# Altium integrated library TI Data Converters Digital to Analog Converter.IntLib: 1533 symbols (part 19 of 99)
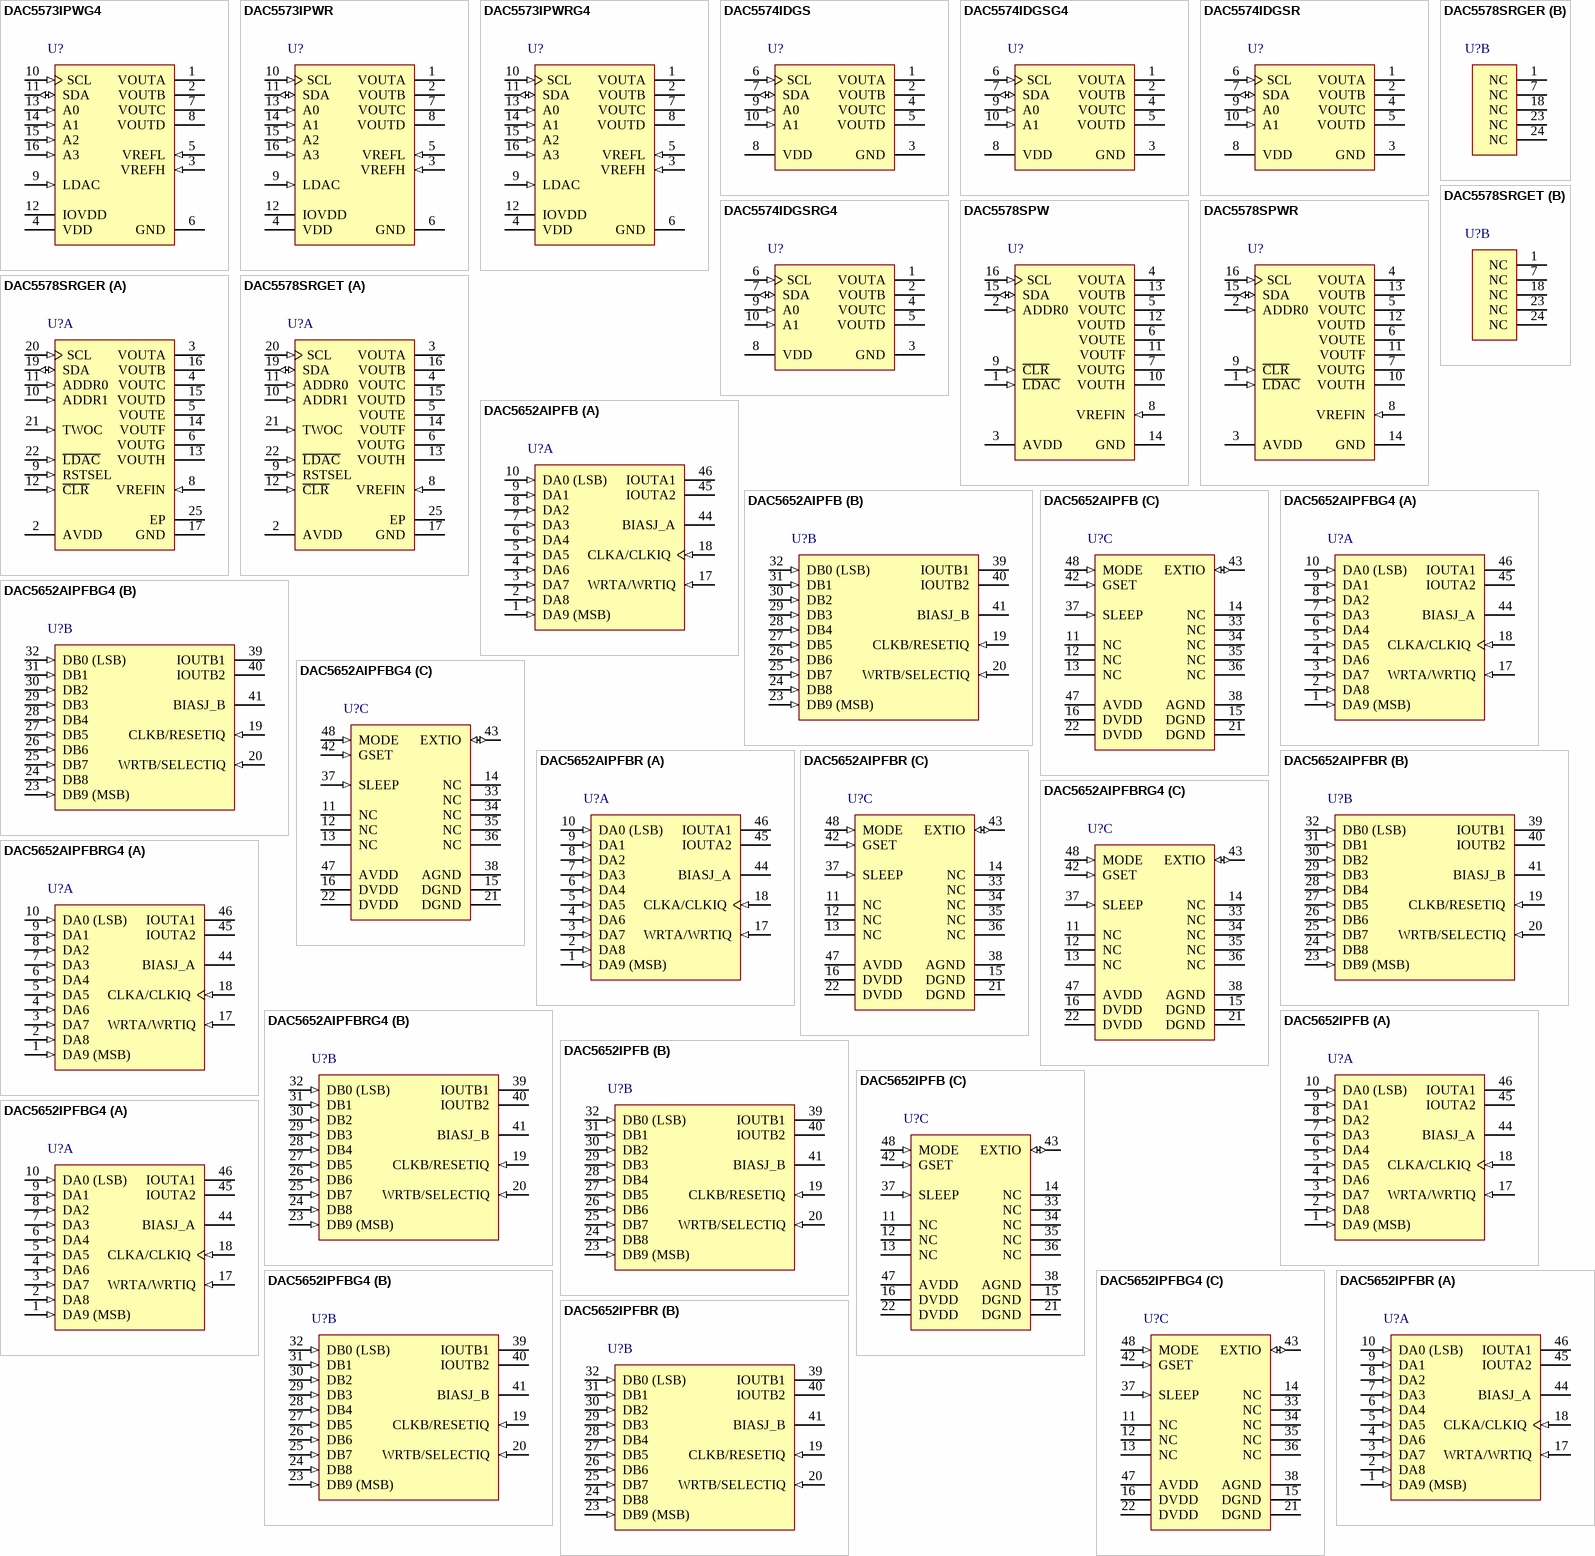
[diagram p91: symbols DAC5573IPWG4 to DAC5652IPFBR]

## DAC5578SPWR
designator U?
8-Bit, Octal Channel, Ultra-Low Glitch, Voltage Output, 2-Wire Interface DAC, -40 to 125 degC, 16-pin SOP (PW16), Green (RoHS & no Sb/Br); Manufacturer: Texas Instruments; PartNumber: DAC5578SPWR; DAC Channels: 8; DNL(Max)(+/-LSB): 0.25; Interface: Serial I2C; Power Consumption(Typ)(mW): 3.67; Settling Time(us): 7; SubFamily: Precision DAC (=<10MSPS); DatasheetVersion: SBAS496A; PackageVersion: 4040064-4/G, 02/2011; PackageReference: PW16; PackageDescription: 16-Pin Plastic Small Outline, Body 5 x 4.4 mm, Pitch 0.65 mm; Supplier 1: Digi-Key; Supplier Part Number 1: DAC5578SPWR-ND; Supplier 2: Farnell; Supplier Part Number 2: 1854518; Supplier 3: Newark; Supplier Part Number 3: 01T0028; Supplier 4: Mouser; Supplier Part Number 4: 595-DAC5578SPWR; Eco-Plan: Green (RoHS & no Sb/Br); INL(Max)(+/-LSB): 0.25; Resolution(Bits): 8; Mounting Technology: Surface Mount; Code_JEDEC: MO-153; ComponentLink1Description: Manufacturer URL; ComponentLink1URL: http://www.ti.com/; ComponentLink2Description: Datasheet; ComponentLink2URL: http://www.ti.com/general/docs/lit/getliterature.tsp?genericPartNumber=DAC5578&fileType=pdf; ComponentLink3Description: Package Specification; ComponentLink3URL: http://www.ti.com/lit/ml/mpds361/mpds361.pdf
footprint TI-PW16_N (SOP, 16-Leads, Body 5x4.4mm, Pitch 0.65mm, IPC Medium Density)
footprint TI-PW16_L (SOP, 16-Leads, Body 5x4.4mm, Pitch 0.65mm, IPC High Density)
footprint TI-PW16_M (SOP, 16-Leads, Body 5x4.4mm, Pitch 0.65mm, IPC Low Density)
pins: 1 ~{LDAC} (in) "Load DACs", 2 ADDR0 (in) "3-state address input", 3 AVDD (power) "Power-supply input, 2.7V to 5.5V", 4 VOUTA (hiz) "Analog output voltage from DAC A", 5 VOUTC (hiz) "Analog output voltage from DAC C", 6 VOUTE (hiz) "Analog output voltage from DAC E", 7 VOUTG (hiz) "Analog output voltage from DAC G", 8 VREFIN (in) "Positive reference input", 9 ~{CLR} (in) "Asynchronous clear input", 10 VOUTH (hiz) "Analog output voltage from DAC H", 11 VOUTF (hiz) "Analog output voltage from DAC F", 12 VOUTD (hiz) "Analog output voltage from DAC D", 13 VOUTB (hiz) "Analog output voltage from DAC B", 14 GND (power) "Ground reference point for all circuitry on the device", 15 SDA (io) "Serial data input. Data are clocked into or out of the input register. This pin is a bidirectional, open-drain data line that should be connected to the supply voltage with an external pull-up resistor.", 16 SCL (in) "Serial clock input. Data can be transferred at rates up to 3.4MHz. Schmitt-trigger logic input."

## DAC5578SRGER
designator U?
8-Bit, Octal Channel, Ultra-Low Glitch, Voltage Output, 2-Wire Interface DAC, -40 to 125 degC, 24-pin QFN (RGE24), Green (RoHS & no Sb/Br); Manufacturer: Texas Instruments; PartNumber: DAC5578SRGER; DAC Channels: 8; DNL(Max)(+/-LSB): 0.25; Interface: Serial I2C; Power Consumption(Typ)(mW): 3.67; Settling Time(us): 7; SubFamily: Precision DAC (=<10MSPS); DatasheetVersion: SBAS496A; PackageVersion: 4204104/G, 07/2011; PackageReference: RGE24-2700X2700TP; PackageDescription: 24-Pin Plastic Flat Pack, Body 4 x 4 mm, Pitch 0.5 mm; Supplier 1: Digi-Key; Supplier Part Number 1: DAC5578SRGER-ND; Supplier 2: Mouser; Supplier Part Number 2: 595-DAC5578SRGER; Eco-Plan: Green (RoHS & no Sb/Br); INL(Max)(+/-LSB): 0.25; Resolution(Bits): 8; Mounting Technology: Surface Mount; Code_JEDEC: MO-220; ComponentLink1Description: Manufacturer URL; ComponentLink1URL: http://www.ti.com/; ComponentLink2Description: Datasheet; ComponentLink2URL: http://www.ti.com/general/docs/lit/getliterature.tsp?genericPartNumber=DAC5578&fileType=pdf; ComponentLink3Description: Package Specification; ComponentLink3URL: http://www.ti.com/litv/pdf/mpqf124f
footprint TI-RGE24-2700X2700TP_V (QFN, 24-Leads, Body 4x4mm, Pitch 0.5mm, Thermal Pad 2.7x2.7mm)
part A pins: 2 AVDD (power) "Power-supply input, 2.7V to 5.5V", 3 VOUTA (hiz) "Analog output voltage from DAC A", 4 VOUTC (hiz) "Analog output voltage from DAC C", 5 VOUTE (hiz) "Analog output voltage from DAC E", 6 VOUTG (hiz) "Analog output voltage from DAC G", 8 VREFIN (in) "Positive reference input", 9 RSTSEL (in) "Reset select pin. RSTSEL high resets device to mid-scale; RSTSEL low resets device to zero-scale.", 10 ADDR1 (in) "3-state address input", 11 ADDR0 (in) "3-state address input", 12 ~{CLR} (in) "Asynchronous clear input", 13 VOUTH (hiz) "Analog output voltage from DAC H", 14 VOUTF (hiz) "Analog output voltage from DAC F", 15 VOUTD (hiz) "Analog output voltage from DAC D", 16 VOUTB (hiz) "Analog output voltage from DAC B", 17 GND (power) "Ground reference point for all circuitry on the device", 19 SDA (io) "Serial data input. Data are clocked into or out of the input register. This pin is a bidirectional, open-drain data line that should be connected to the supply voltage with an external pull-up resistor.", 20 SCL (in) "Serial clock input. Data can be transferred at rates up to 3.4MHz. Schmitt-trigger logic input.", 21 TWOC (in) "Twos complement select. If the TWOC pin is pulled high, the DAC registers use twos complement format; if TWOC is pulled low, the DAC registers use straight binary format.", 22 ~{LDAC} (in) "Load DACs", 25 EP (power) "It is recommended to connect the thermal pad to GND for better thermal dissipation."
part B pins: 1 NC "Not internally connected", 7 NC "Not internally connected", 18 NC "Not internally connected", 23 NC "Not internally connected", 24 NC "Not internally connected"

## DAC5578SRGET
designator U?
8-Bit, Octal Channel, Ultra-Low Glitch, Voltage Output, 2-Wire Interface DAC, -40 to 125 degC, 24-pin QFN (RGE24), Green (RoHS & no Sb/Br); Manufacturer: Texas Instruments; PartNumber: DAC5578SRGET; DAC Channels: 8; DNL(Max)(+/-LSB): 0.25; Interface: Serial I2C; Power Consumption(Typ)(mW): 3.67; Settling Time(us): 7; SubFamily: Precision DAC (=<10MSPS); DatasheetVersion: SBAS496A; PackageVersion: 4204104/G, 07/2011; PackageReference: RGE24-2700X2700TP; PackageDescription: 24-Pin Plastic Flat Pack, Body 4 x 4 mm, Pitch 0.5 mm; Supplier 1: Digi-Key; Supplier Part Number 1: 296-27737-2-ND; Supplier 2: Digi-Key; Supplier Part Number 2: 296-27737-1-ND; Supplier 3: Digi-Key; Supplier Part Number 3: 296-27737-6-ND; Supplier 4: Farnell; Supplier Part Number 4: 1862574; Supplier 5: Newark; Supplier Part Number 5: 91R2082; Supplier 6: Mouser; Supplier Part Number 6: 595-DAC5578SRGET; Eco-Plan: Green (RoHS & no Sb/Br); INL(Max)(+/-LSB): 0.25; Resolution(Bits): 8; Mounting Technology: Surface Mount; Code_JEDEC: MO-220; ComponentLink1Description: Manufacturer URL; ComponentLink1URL: http://www.ti.com/; ComponentLink2Description: Datasheet; ComponentLink2URL: http://www.ti.com/general/docs/lit/getliterature.tsp?genericPartNumber=DAC5578&fileType=pdf; ComponentLink3Description: Package Specification; ComponentLink3URL: http://www.ti.com/litv/pdf/mpqf124f
footprint TI-RGE24-2700X2700TP_V (QFN, 24-Leads, Body 4x4mm, Pitch 0.5mm, Thermal Pad 2.7x2.7mm)
part A pins: 2 AVDD (power) "Power-supply input, 2.7V to 5.5V", 3 VOUTA (hiz) "Analog output voltage from DAC A", 4 VOUTC (hiz) "Analog output voltage from DAC C", 5 VOUTE (hiz) "Analog output voltage from DAC E", 6 VOUTG (hiz) "Analog output voltage from DAC G", 8 VREFIN (in) "Positive reference input", 9 RSTSEL (in) "Reset select pin. RSTSEL high resets device to mid-scale; RSTSEL low resets device to zero-scale.", 10 ADDR1 (in) "3-state address input", 11 ADDR0 (in) "3-state address input", 12 ~{CLR} (in) "Asynchronous clear input", 13 VOUTH (hiz) "Analog output voltage from DAC H", 14 VOUTF (hiz) "Analog output voltage from DAC F", 15 VOUTD (hiz) "Analog output voltage from DAC D", 16 VOUTB (hiz) "Analog output voltage from DAC B", 17 GND (power) "Ground reference point for all circuitry on the device", 19 SDA (io) "Serial data input. Data are clocked into or out of the input register. This pin is a bidirectional, open-drain data line that should be connected to the supply voltage with an external pull-up resistor.", 20 SCL (in) "Serial clock input. Data can be transferred at rates up to 3.4MHz. Schmitt-trigger logic input.", 21 TWOC (in) "Twos complement select. If the TWOC pin is pulled high, the DAC registers use twos complement format; if TWOC is pulled low, the DAC registers use straight binary format.", 22 ~{LDAC} (in) "Load DACs", 25 EP (power) "It is recommended to connect the thermal pad to GND for better thermal dissipation."
part B pins: 1 NC "Not internally connected", 7 NC "Not internally connected", 18 NC "Not internally connected", 23 NC "Not internally connected", 24 NC "Not internally connected"

## DAC5652AIPFB
designator U?
Dual 10-Bit 275 MSPS Digital to Analog Converter, -40 to 85 degC, 48-pin QFP (PFB48), Green (RoHS & no Sb/Br); Manufacturer: Texas Instruments; PartNumber: DAC5652AIPFB; DAC Channels: 2; DNL(Max)(+/-LSB): 0.5; INL(Max)(+/-LSB): 1; Interface: Parallel CMOS; Power Consumption(Typ)(mW): 290; Resolution(Bits): 10; Settling Time(us): 0.02; SFDR(dB): 80; SNR(dB): 63; SubFamily: High Speed DAC (>10MSPS); DatasheetVersion: SLAS535D; PackageVersion: 4073176/B, 10/1996; PackageReference: PFB48; PackageDescription: 48-Pin Plastic Flat Pack, Body 7 x 7 mm, Pitch 0.5 mm; Supplier 1: Digi-Key; Supplier Part Number 1: 296-22614-ND; Supplier 2: Mouser; Supplier Part Number 2: 595-DAC5652AIPFB; Eco-Plan: Green (RoHS & no Sb/Br); Mounting Technology: Surface Mount; Code_JEDEC: MS-026; ComponentLink1Description: Manufacturer URL; ComponentLink1URL: http://www.ti.com/; ComponentLink2Description: Datasheet; ComponentLink2URL: http://www.ti.com/general/docs/lit/getliterature.tsp?genericPartNumber=DAC5652A&fileType=pdf; ComponentLink3Description: Package Specification; ComponentLink3URL: http://www.ti.com/lit/ml/mtqf019a/mtqf019a.pdf
footprint TI-PFB48_N (QFP, 48-Leads, Body 7x7mm, Pitch 0.5mm, IPC Medium Density)
footprint TI-PFB48_L (QFP, 48-Leads, Body 7x7mm, Pitch 0.5mm, IPC High Density)
footprint TI-PFB48_M (QFP, 48-Leads, Body 7x7mm, Pitch 0.5mm, IPC Low Density)
part A pins: 1 DA9 (MSB) (in) "Data port A. DA9 is MSB and DA0 is LSB. Internal pulldown.", 2 DA8 (in) "Data port A. DA9 is MSB and DA0 is LSB. Internal pulldown.", 3 DA7 (in) "Data port A. DA9 is MSB and DA0 is LSB. Internal pulldown.", 4 DA6 (in) "Data port A. DA9 is MSB and DA0 is LSB. Internal pulldown.", 5 DA5 (in) "Data port A. DA9 is MSB and DA0 is LSB. Internal pulldown.", 6 DA4 (in) "Data port A. DA9 is MSB and DA0 is LSB. Internal pulldown.", 7 DA3 (in) "Data port A. DA9 is MSB and DA0 is LSB. Internal pulldown.", 8 DA2 (in) "Data port A. DA9 is MSB and DA0 is LSB. Internal pulldown.", 9 DA1 (in) "Data port A. DA9 is MSB and DA0 is LSB. Internal pulldown.", 10 DA0 (LSB) (in) "Data port A. DA9 is MSB and DA0 is LSB. Internal pulldown.", 17 WRTA/WRTIQ (in) "Input write signal for PORT A (WRTIQ in interleaving mode)", 18 CLKA/CLKIQ (in) "Clock input for DACA, CLKIQ in interleaved mode", 44 BIASJ_A "Full-scale output current bias for DACA", 45 IOUTA2 (hiz) "DACA complementary current output. Full-scale with all bits of DA low.", 46 IOUTA1 (hiz) "DACA current output. Full-scale with all bits of DA high."
part B pins: 19 CLKB/RESETIQ (in) "Clock input for DACB, RESETIQ in interleaved mode", 20 WRTB/SELECTIQ (in) "Input write signal for PORT B (SELECTIQ in interleaving mode)", 23 DB9 (MSB) (in) "Data port B. DB9 is MSB and DB0 is LSB. Internal pulldown.", 24 DB8 (in) "Data port B. DB9 is MSB and DB0 is LSB. Internal pulldown.", 25 DB7 (in) "Data port B. DB9 is MSB and DB0 is LSB. Internal pulldown.", 26 DB6 (in) "Data port B. DB9 is MSB and DB0 is LSB. Internal pulldown.", 27 DB5 (in) "Data port B. DB9 is MSB and DB0 is LSB. Internal pulldown.", 28 DB4 (in) "Data port B. DB9 is MSB and DB0 is LSB. Internal pulldown.", 29 DB3 (in) "Data port B. DB9 is MSB and DB0 is LSB. Internal pulldown.", 30 DB2 (in) "Data port B. DB9 is MSB and DB0 is LSB. Internal pulldown.", 31 DB1 (in) "Data port B. DB9 is MSB and DB0 is LSB. Internal pulldown.", 32 DB0 (LSB) (in) "Data port B. DB9 is MSB and DB0 is LSB. Internal pulldown.", 39 IOUTB1 (hiz) "DACB current output. Full-scale with all bits of DB high.", 40 IOUTB2 (hiz) "DACB complementary current output. Full-scale with all bits of DB low.", 41 BIASJ_B "Full-scale output current bias for DACB"
part C pins: 11 NC "Factory use only. Pins must be connected to DGND or left unconnected.", 12 NC "Factory use only. Pins must be connected to DGND or left unconnected.", 13 NC "Factory use only. Pins must be connected to DGND or left unconnected.", 14 NC "Factory use only. Pins must be connected to DGND or left unconnected.", 15 DGND (power) "Digital ground", 16 DVDD (power) "Digital supply voltage", 21 DGND (power) "Digital ground", 22 DVDD (power) "Digital supply voltage", 33 NC "Factory use only. Pins must be connected to DGND or left unconnected.", 34 NC "Factory use only. Pins must be connected to DGND or left unconnected.", 35 NC "Factory use only. Pins must be connected to DGND or left unconnected.", 36 NC "Factory use only. Pins must be connected to DGND or left unconnected.", 37 SLEEP (in) "Sleep function control input: H - DAC in power-down mode, L - DAC in operating mode. Internal pulldown.", 38 AGND (power) "Analog ground", 42 GSET (in) "Gain-setting mode: H - 1 resistor, L - 2 resistors. Internal pullup.", 43 EXTIO (io) "Internal reference output (bypass with 0.1 uF to AGND) or external reference input", 47 AVDD (power) "Analog supply voltage", 48 MODE (in) "Mode Select: H - Dual Bus, L - Interleaved. Internal pullup."

## DAC5652AIPFBG4
designator U?
Dual 10-Bit 275 MSPS Digital to Analog Converter, -40 to 85 degC, 48-pin QFP (PFB48), Green (RoHS & no Sb/Br); Manufacturer: Texas Instruments; PartNumber: DAC5652AIPFBG4; DAC Channels: 2; DNL(Max)(+/-LSB): 0.5; INL(Max)(+/-LSB): 1; Interface: Parallel CMOS; Power Consumption(Typ)(mW): 290; Resolution(Bits): 10; Settling Time(us): 0.02; SFDR(dB): 80; SNR(dB): 63; SubFamily: High Speed DAC (>10MSPS); DatasheetVersion: SLAS535D; PackageVersion: 4073176/B, 10/1996; PackageReference: PFB48; PackageDescription: 48-Pin Plastic Flat Pack, Body 7 x 7 mm, Pitch 0.5 mm; Supplier 1: Digi-Key; Supplier Part Number 1: DAC5652AIPFBG4-ND; Supplier 2: Mouser; Supplier Part Number 2: 595-DAC5652AIPFBG4; Eco-Plan: Green (RoHS & no Sb/Br); Mounting Technology: Surface Mount; Code_JEDEC: MS-026; ComponentLink1Description: Manufacturer URL; ComponentLink1URL: http://www.ti.com/; ComponentLink2Description: Datasheet; ComponentLink2URL: http://www.ti.com/general/docs/lit/getliterature.tsp?genericPartNumber=DAC5652A&fileType=pdf; ComponentLink3Description: Package Specification; ComponentLink3URL: http://www.ti.com/lit/ml/mtqf019a/mtqf019a.pdf
footprint TI-PFB48_N (QFP, 48-Leads, Body 7x7mm, Pitch 0.5mm, IPC Medium Density)
footprint TI-PFB48_L (QFP, 48-Leads, Body 7x7mm, Pitch 0.5mm, IPC High Density)
footprint TI-PFB48_M (QFP, 48-Leads, Body 7x7mm, Pitch 0.5mm, IPC Low Density)
part A pins: 1 DA9 (MSB) (in) "Data port A. DA9 is MSB and DA0 is LSB. Internal pulldown.", 2 DA8 (in) "Data port A. DA9 is MSB and DA0 is LSB. Internal pulldown.", 3 DA7 (in) "Data port A. DA9 is MSB and DA0 is LSB. Internal pulldown.", 4 DA6 (in) "Data port A. DA9 is MSB and DA0 is LSB. Internal pulldown.", 5 DA5 (in) "Data port A. DA9 is MSB and DA0 is LSB. Internal pulldown.", 6 DA4 (in) "Data port A. DA9 is MSB and DA0 is LSB. Internal pulldown.", 7 DA3 (in) "Data port A. DA9 is MSB and DA0 is LSB. Internal pulldown.", 8 DA2 (in) "Data port A. DA9 is MSB and DA0 is LSB. Internal pulldown.", 9 DA1 (in) "Data port A. DA9 is MSB and DA0 is LSB. Internal pulldown.", 10 DA0 (LSB) (in) "Data port A. DA9 is MSB and DA0 is LSB. Internal pulldown.", 17 WRTA/WRTIQ (in) "Input write signal for PORT A (WRTIQ in interleaving mode)", 18 CLKA/CLKIQ (in) "Clock input for DACA, CLKIQ in interleaved mode", 44 BIASJ_A "Full-scale output current bias for DACA", 45 IOUTA2 (hiz) "DACA complementary current output. Full-scale with all bits of DA low.", 46 IOUTA1 (hiz) "DACA current output. Full-scale with all bits of DA high."
part B pins: 19 CLKB/RESETIQ (in) "Clock input for DACB, RESETIQ in interleaved mode", 20 WRTB/SELECTIQ (in) "Input write signal for PORT B (SELECTIQ in interleaving mode)", 23 DB9 (MSB) (in) "Data port B. DB9 is MSB and DB0 is LSB. Internal pulldown.", 24 DB8 (in) "Data port B. DB9 is MSB and DB0 is LSB. Internal pulldown.", 25 DB7 (in) "Data port B. DB9 is MSB and DB0 is LSB. Internal pulldown.", 26 DB6 (in) "Data port B. DB9 is MSB and DB0 is LSB. Internal pulldown.", 27 DB5 (in) "Data port B. DB9 is MSB and DB0 is LSB. Internal pulldown.", 28 DB4 (in) "Data port B. DB9 is MSB and DB0 is LSB. Internal pulldown.", 29 DB3 (in) "Data port B. DB9 is MSB and DB0 is LSB. Internal pulldown.", 30 DB2 (in) "Data port B. DB9 is MSB and DB0 is LSB. Internal pulldown.", 31 DB1 (in) "Data port B. DB9 is MSB and DB0 is LSB. Internal pulldown.", 32 DB0 (LSB) (in) "Data port B. DB9 is MSB and DB0 is LSB. Internal pulldown.", 39 IOUTB1 (hiz) "DACB current output. Full-scale with all bits of DB high.", 40 IOUTB2 (hiz) "DACB complementary current output. Full-scale with all bits of DB low.", 41 BIASJ_B "Full-scale output current bias for DACB"
part C pins: 11 NC "Factory use only. Pins must be connected to DGND or left unconnected.", 12 NC "Factory use only. Pins must be connected to DGND or left unconnected.", 13 NC "Factory use only. Pins must be connected to DGND or left unconnected.", 14 NC "Factory use only. Pins must be connected to DGND or left unconnected.", 15 DGND (power) "Digital ground", 16 DVDD (power) "Digital supply voltage", 21 DGND (power) "Digital ground", 22 DVDD (power) "Digital supply voltage", 33 NC "Factory use only. Pins must be connected to DGND or left unconnected.", 34 NC "Factory use only. Pins must be connected to DGND or left unconnected.", 35 NC "Factory use only. Pins must be connected to DGND or left unconnected.", 36 NC "Factory use only. Pins must be connected to DGND or left unconnected.", 37 SLEEP (in) "Sleep function control input: H - DAC in power-down mode, L - DAC in operating mode. Internal pulldown.", 38 AGND (power) "Analog ground", 42 GSET (in) "Gain-setting mode: H - 1 resistor, L - 2 resistors. Internal pullup.", 43 EXTIO (io) "Internal reference output (bypass with 0.1 uF to AGND) or external reference input", 47 AVDD (power) "Analog supply voltage", 48 MODE (in) "Mode Select: H - Dual Bus, L - Interleaved. Internal pullup."

## DAC5652AIPFBR
designator U?
Dual 10-Bit 275 MSPS Digital to Analog Converter, -40 to 85 degC, 48-pin QFP (PFB48), Green (RoHS & no Sb/Br); Manufacturer: Texas Instruments; PartNumber: DAC5652AIPFBR; DAC Channels: 2; DNL(Max)(+/-LSB): 0.5; INL(Max)(+/-LSB): 1; Interface: Parallel CMOS; Power Consumption(Typ)(mW): 290; Resolution(Bits): 10; Settling Time(us): 0.02; SFDR(dB): 80; SNR(dB): 63; SubFamily: High Speed DAC (>10MSPS); DatasheetVersion: SLAS535D; PackageVersion: 4073176/B, 10/1996; PackageReference: PFB48; PackageDescription: 48-Pin Plastic Flat Pack, Body 7 x 7 mm, Pitch 0.5 mm; Supplier 1: Digi-Key; Supplier Part Number 1: DAC5652AIPFBR-ND; Supplier 2: Mouser; Supplier Part Number 2: 595-DAC5652AIPFBR; Eco-Plan: Green (RoHS & no Sb/Br); Mounting Technology: Surface Mount; Code_JEDEC: MS-026; ComponentLink1Description: Manufacturer URL; ComponentLink1URL: http://www.ti.com/; ComponentLink2Description: Datasheet; ComponentLink2URL: http://www.ti.com/general/docs/lit/getliterature.tsp?genericPartNumber=DAC5652A&fileType=pdf; ComponentLink3Description: Package Specification; ComponentLink3URL: http://www.ti.com/lit/ml/mtqf019a/mtqf019a.pdf
footprint TI-PFB48_N (QFP, 48-Leads, Body 7x7mm, Pitch 0.5mm, IPC Medium Density)
footprint TI-PFB48_L (QFP, 48-Leads, Body 7x7mm, Pitch 0.5mm, IPC High Density)
footprint TI-PFB48_M (QFP, 48-Leads, Body 7x7mm, Pitch 0.5mm, IPC Low Density)
part A pins: 1 DA9 (MSB) (in) "Data port A. DA9 is MSB and DA0 is LSB. Internal pulldown.", 2 DA8 (in) "Data port A. DA9 is MSB and DA0 is LSB. Internal pulldown.", 3 DA7 (in) "Data port A. DA9 is MSB and DA0 is LSB. Internal pulldown.", 4 DA6 (in) "Data port A. DA9 is MSB and DA0 is LSB. Internal pulldown.", 5 DA5 (in) "Data port A. DA9 is MSB and DA0 is LSB. Internal pulldown.", 6 DA4 (in) "Data port A. DA9 is MSB and DA0 is LSB. Internal pulldown.", 7 DA3 (in) "Data port A. DA9 is MSB and DA0 is LSB. Internal pulldown.", 8 DA2 (in) "Data port A. DA9 is MSB and DA0 is LSB. Internal pulldown.", 9 DA1 (in) "Data port A. DA9 is MSB and DA0 is LSB. Internal pulldown.", 10 DA0 (LSB) (in) "Data port A. DA9 is MSB and DA0 is LSB. Internal pulldown.", 17 WRTA/WRTIQ (in) "Input write signal for PORT A (WRTIQ in interleaving mode)", 18 CLKA/CLKIQ (in) "Clock input for DACA, CLKIQ in interleaved mode", 44 BIASJ_A "Full-scale output current bias for DACA", 45 IOUTA2 (hiz) "DACA complementary current output. Full-scale with all bits of DA low.", 46 IOUTA1 (hiz) "DACA current output. Full-scale with all bits of DA high."
part B pins: 19 CLKB/RESETIQ (in) "Clock input for DACB, RESETIQ in interleaved mode", 20 WRTB/SELECTIQ (in) "Input write signal for PORT B (SELECTIQ in interleaving mode)", 23 DB9 (MSB) (in) "Data port B. DB9 is MSB and DB0 is LSB. Internal pulldown.", 24 DB8 (in) "Data port B. DB9 is MSB and DB0 is LSB. Internal pulldown.", 25 DB7 (in) "Data port B. DB9 is MSB and DB0 is LSB. Internal pulldown.", 26 DB6 (in) "Data port B. DB9 is MSB and DB0 is LSB. Internal pulldown.", 27 DB5 (in) "Data port B. DB9 is MSB and DB0 is LSB. Internal pulldown.", 28 DB4 (in) "Data port B. DB9 is MSB and DB0 is LSB. Internal pulldown.", 29 DB3 (in) "Data port B. DB9 is MSB and DB0 is LSB. Internal pulldown.", 30 DB2 (in) "Data port B. DB9 is MSB and DB0 is LSB. Internal pulldown.", 31 DB1 (in) "Data port B. DB9 is MSB and DB0 is LSB. Internal pulldown.", 32 DB0 (LSB) (in) "Data port B. DB9 is MSB and DB0 is LSB. Internal pulldown.", 39 IOUTB1 (hiz) "DACB current output. Full-scale with all bits of DB high.", 40 IOUTB2 (hiz) "DACB complementary current output. Full-scale with all bits of DB low.", 41 BIASJ_B "Full-scale output current bias for DACB"
part C pins: 11 NC "Factory use only. Pins must be connected to DGND or left unconnected.", 12 NC "Factory use only. Pins must be connected to DGND or left unconnected.", 13 NC "Factory use only. Pins must be connected to DGND or left unconnected.", 14 NC "Factory use only. Pins must be connected to DGND or left unconnected.", 15 DGND (power) "Digital ground", 16 DVDD (power) "Digital supply voltage", 21 DGND (power) "Digital ground", 22 DVDD (power) "Digital supply voltage", 33 NC "Factory use only. Pins must be connected to DGND or left unconnected.", 34 NC "Factory use only. Pins must be connected to DGND or left unconnected.", 35 NC "Factory use only. Pins must be connected to DGND or left unconnected.", 36 NC "Factory use only. Pins must be connected to DGND or left unconnected.", 37 SLEEP (in) "Sleep function control input: H - DAC in power-down mode, L - DAC in operating mode. Internal pulldown.", 38 AGND (power) "Analog ground", 42 GSET (in) "Gain-setting mode: H - 1 resistor, L - 2 resistors. Internal pullup.", 43 EXTIO (io) "Internal reference output (bypass with 0.1 uF to AGND) or external reference input", 47 AVDD (power) "Analog supply voltage", 48 MODE (in) "Mode Select: H - Dual Bus, L - Interleaved. Internal pullup."

## DAC5652AIPFBRG4
designator U?
Dual 10-Bit 275 MSPS Digital to Analog Converter, -40 to 85 degC, 48-pin QFP (PFB48), Green (RoHS & no Sb/Br); Manufacturer: Texas Instruments; PartNumber: DAC5652AIPFBRG4; DAC Channels: 2; DNL(Max)(+/-LSB): 0.5; INL(Max)(+/-LSB): 1; Interface: Parallel CMOS; Power Consumption(Typ)(mW): 290; Resolution(Bits): 10; Settling Time(us): 0.02; SFDR(dB): 80; SNR(dB): 63; SubFamily: High Speed DAC (>10MSPS); DatasheetVersion: SLAS535D; PackageVersion: 4073176/B, 10/1996; PackageReference: PFB48; PackageDescription: 48-Pin Plastic Flat Pack, Body 7 x 7 mm, Pitch 0.5 mm; Supplier 1: Digi-Key; Supplier Part Number 1: DAC5652AIPFBRG4-ND; Supplier 2: Mouser; Supplier Part Number 2: 595-DAC5652AIPFBRG4; Eco-Plan: Green (RoHS & no Sb/Br); Mounting Technology: Surface Mount; Code_JEDEC: MS-026; ComponentLink1Description: Manufacturer URL; ComponentLink1URL: http://www.ti.com/; ComponentLink2Description: Datasheet; ComponentLink2URL: http://www.ti.com/general/docs/lit/getliterature.tsp?genericPartNumber=DAC5652A&fileType=pdf; ComponentLink3Description: Package Specification; ComponentLink3URL: http://www.ti.com/lit/ml/mtqf019a/mtqf019a.pdf
footprint TI-PFB48_N (QFP, 48-Leads, Body 7x7mm, Pitch 0.5mm, IPC Medium Density)
footprint TI-PFB48_L (QFP, 48-Leads, Body 7x7mm, Pitch 0.5mm, IPC High Density)
footprint TI-PFB48_M (QFP, 48-Leads, Body 7x7mm, Pitch 0.5mm, IPC Low Density)
part A pins: 1 DA9 (MSB) (in) "Data port A. DA9 is MSB and DA0 is LSB. Internal pulldown.", 2 DA8 (in) "Data port A. DA9 is MSB and DA0 is LSB. Internal pulldown.", 3 DA7 (in) "Data port A. DA9 is MSB and DA0 is LSB. Internal pulldown.", 4 DA6 (in) "Data port A. DA9 is MSB and DA0 is LSB. Internal pulldown.", 5 DA5 (in) "Data port A. DA9 is MSB and DA0 is LSB. Internal pulldown.", 6 DA4 (in) "Data port A. DA9 is MSB and DA0 is LSB. Internal pulldown.", 7 DA3 (in) "Data port A. DA9 is MSB and DA0 is LSB. Internal pulldown.", 8 DA2 (in) "Data port A. DA9 is MSB and DA0 is LSB. Internal pulldown.", 9 DA1 (in) "Data port A. DA9 is MSB and DA0 is LSB. Internal pulldown.", 10 DA0 (LSB) (in) "Data port A. DA9 is MSB and DA0 is LSB. Internal pulldown.", 17 WRTA/WRTIQ (in) "Input write signal for PORT A (WRTIQ in interleaving mode)", 18 CLKA/CLKIQ (in) "Clock input for DACA, CLKIQ in interleaved mode", 44 BIASJ_A "Full-scale output current bias for DACA", 45 IOUTA2 (hiz) "DACA complementary current output. Full-scale with all bits of DA low.", 46 IOUTA1 (hiz) "DACA current output. Full-scale with all bits of DA high."
part B pins: 19 CLKB/RESETIQ (in) "Clock input for DACB, RESETIQ in interleaved mode", 20 WRTB/SELECTIQ (in) "Input write signal for PORT B (SELECTIQ in interleaving mode)", 23 DB9 (MSB) (in) "Data port B. DB9 is MSB and DB0 is LSB. Internal pulldown.", 24 DB8 (in) "Data port B. DB9 is MSB and DB0 is LSB. Internal pulldown.", 25 DB7 (in) "Data port B. DB9 is MSB and DB0 is LSB. Internal pulldown.", 26 DB6 (in) "Data port B. DB9 is MSB and DB0 is LSB. Internal pulldown.", 27 DB5 (in) "Data port B. DB9 is MSB and DB0 is LSB. Internal pulldown.", 28 DB4 (in) "Data port B. DB9 is MSB and DB0 is LSB. Internal pulldown.", 29 DB3 (in) "Data port B. DB9 is MSB and DB0 is LSB. Internal pulldown.", 30 DB2 (in) "Data port B. DB9 is MSB and DB0 is LSB. Internal pulldown.", 31 DB1 (in) "Data port B. DB9 is MSB and DB0 is LSB. Internal pulldown.", 32 DB0 (LSB) (in) "Data port B. DB9 is MSB and DB0 is LSB. Internal pulldown.", 39 IOUTB1 (hiz) "DACB current output. Full-scale with all bits of DB high.", 40 IOUTB2 (hiz) "DACB complementary current output. Full-scale with all bits of DB low.", 41 BIASJ_B "Full-scale output current bias for DACB"
part C pins: 11 NC "Factory use only. Pins must be connected to DGND or left unconnected.", 12 NC "Factory use only. Pins must be connected to DGND or left unconnected.", 13 NC "Factory use only. Pins must be connected to DGND or left unconnected.", 14 NC "Factory use only. Pins must be connected to DGND or left unconnected.", 15 DGND (power) "Digital ground", 16 DVDD (power) "Digital supply voltage", 21 DGND (power) "Digital ground", 22 DVDD (power) "Digital supply voltage", 33 NC "Factory use only. Pins must be connected to DGND or left unconnected.", 34 NC "Factory use only. Pins must be connected to DGND or left unconnected.", 35 NC "Factory use only. Pins must be connected to DGND or left unconnected.", 36 NC "Factory use only. Pins must be connected to DGND or left unconnected.", 37 SLEEP (in) "Sleep function control input: H - DAC in power-down mode, L - DAC in operating mode. Internal pulldown.", 38 AGND (power) "Analog ground", 42 GSET (in) "Gain-setting mode: H - 1 resistor, L - 2 resistors. Internal pullup.", 43 EXTIO (io) "Internal reference output (bypass with 0.1 uF to AGND) or external reference input", 47 AVDD (power) "Analog supply voltage", 48 MODE (in) "Mode Select: H - Dual Bus, L - Interleaved. Internal pullup."

## DAC5652IPFB
designator U?
10-Bit 275 MSPS Dual Digital to Analog Converter, -40 to 85 degC, 48-pin QFP (PFB48), Green (RoHS & no Sb/Br); Manufacturer: Texas Instruments; PartNumber: DAC5652IPFB; DAC Channels: 2; DNL(Max)(+/-LSB): 0.5; INL(Max)(+/-LSB): 1; Interface: Parallel CMOS; Power Consumption(Typ)(mW): 290; Resolution(Bits): 10; Settling Time(us): 0.02; SFDR(dB): 80; SNR(dB): 63; SubFamily: High Speed DAC (>10MSPS); DatasheetVersion: SLAS452C; PackageVersion: 4073176/B, 10/1996; PackageReference: PFB48; PackageDescription: 48-Pin Plastic Flat Pack, Body 7 x 7 mm, Pitch 0.5 mm; Supplier 1: Digi-Key; Supplier Part Number 1: 296-17892-ND; Supplier 2: Newark; Supplier Part Number 2: 28K3013; Supplier 3: Mouser; Supplier Part Number 3: 595-DAC5652IPFB; Eco-Plan: Green (RoHS & no Sb/Br); Mounting Technology: Surface Mount; Code_JEDEC: MS-026; ComponentLink1Description: Manufacturer URL; ComponentLink1URL: http://www.ti.com/; ComponentLink2Description: Datasheet; ComponentLink2URL: http://www.ti.com/general/docs/lit/getliterature.tsp?genericPartNumber=DAC5652&fileType=pdf; ComponentLink3Description: Package Specification; ComponentLink3URL: http://www.ti.com/lit/ml/mtqf019a/mtqf019a.pdf
footprint TI-PFB48_N (QFP, 48-Leads, Body 7x7mm, Pitch 0.5mm, IPC Medium Density)
footprint TI-PFB48_L (QFP, 48-Leads, Body 7x7mm, Pitch 0.5mm, IPC High Density)
footprint TI-PFB48_M (QFP, 48-Leads, Body 7x7mm, Pitch 0.5mm, IPC Low Density)
part A pins: 1 DA9 (MSB) (in) "Data port A. DA9 is MSB and DA0 is LSB. Internal pulldown.", 2 DA8 (in) "Data port A. DA9 is MSB and DA0 is LSB. Internal pulldown.", 3 DA7 (in) "Data port A. DA9 is MSB and DA0 is LSB. Internal pulldown.", 4 DA6 (in) "Data port A. DA9 is MSB and DA0 is LSB. Internal pulldown.", 5 DA5 (in) "Data port A. DA9 is MSB and DA0 is LSB. Internal pulldown.", 6 DA4 (in) "Data port A. DA9 is MSB and DA0 is LSB. Internal pulldown.", 7 DA3 (in) "Data port A. DA9 is MSB and DA0 is LSB. Internal pulldown.", 8 DA2 (in) "Data port A. DA9 is MSB and DA0 is LSB. Internal pulldown.", 9 DA1 (in) "Data port A. DA9 is MSB and DA0 is LSB. Internal pulldown.", 10 DA0 (LSB) (in) "Data port A. DA9 is MSB and DA0 is LSB. Internal pulldown.", 17 WRTA/WRTIQ (in) "Input write signal for PORT A (WRTIQ in interleaving mode)", 18 CLKA/CLKIQ (in) "Clock input for DACA, CLKIQ in interleaved mode", 44 BIASJ_A "Full-scale output current bias for DACA", 45 IOUTA2 (hiz) "DACA complementary current output. Full-scale with all bits of DA low.", 46 IOUTA1 (hiz) "DACA current output. Full-scale with all bits of DA high."
part B pins: 19 CLKB/RESETIQ (in) "Clock input for DACB, RESETIQ in interleaved mode", 20 WRTB/SELECTIQ (in) "Input write signal for PORT B (SELECTIQ in interleaving mode)", 23 DB9 (MSB) (in) "Data port B. DB9 is MSB and DB0 is LSB. Internal pulldown.", 24 DB8 (in) "Data port B. DB9 is MSB and DB0 is LSB. Internal pulldown.", 25 DB7 (in) "Data port B. DB9 is MSB and DB0 is LSB. Internal pulldown.", 26 DB6 (in) "Data port B. DB9 is MSB and DB0 is LSB. Internal pulldown.", 27 DB5 (in) "Data port B. DB9 is MSB and DB0 is LSB. Internal pulldown.", 28 DB4 (in) "Data port B. DB9 is MSB and DB0 is LSB. Internal pulldown.", 29 DB3 (in) "Data port B. DB9 is MSB and DB0 is LSB. Internal pulldown.", 30 DB2 (in) "Data port B. DB9 is MSB and DB0 is LSB. Internal pulldown.", 31 DB1 (in) "Data port B. DB9 is MSB and DB0 is LSB. Internal pulldown.", 32 DB0 (LSB) (in) "Data port B. DB9 is MSB and DB0 is LSB. Internal pulldown.", 39 IOUTB1 (hiz) "DACB current output. Full-scale with all bits of DB high.", 40 IOUTB2 (hiz) "DACB complementary current output. Full-scale with all bits of DB low.", 41 BIASJ_B "Full-scale output current bias for DACB"
part C pins: 11 NC "Factory use only. Pins must be connected to DGND or left unconnected.", 12 NC "Factory use only. Pins must be connected to DGND or left unconnected.", 13 NC "Factory use only. Pins must be connected to DGND or left unconnected.", 14 NC "Factory use only. Pins must be connected to DGND or left unconnected.", 15 DGND (power) "Digital ground", 16 DVDD (power) "Digital supply voltage", 21 DGND (power) "Digital ground", 22 DVDD (power) "Digital supply voltage", 33 NC "Factory use only. Pins must be connected to DGND or left unconnected.", 34 NC "Factory use only. Pins must be connected to DGND or left unconnected.", 35 NC "Factory use only. Pins must be connected to DGND or left unconnected.", 36 NC "Factory use only. Pins must be connected to DGND or left unconnected.", 37 SLEEP (in) "Sleep function control input: H - DAC in power-down mode, L - DAC in operating mode. Internal pulldown.", 38 AGND (power) "Analog ground", 42 GSET (in) "Gain-setting mode: H - 1 resistor, L - 2 resistors. Internal pullup.", 43 EXTIO (io) "Internal reference output (bypass with 0.1 uF to AGND) or external reference input", 47 AVDD (power) "Analog supply voltage", 48 MODE (in) "Mode Select: H - Dual Bus, L - Interleaved. Internal pullup."

## DAC5652IPFBG4
designator U?
10-Bit 275 MSPS Dual Digital to Analog Converter, -40 to 85 degC, 48-pin QFP (PFB48), Green (RoHS & no Sb/Br); Manufacturer: Texas Instruments; PartNumber: DAC5652IPFBG4; DAC Channels: 2; DNL(Max)(+/-LSB): 0.5; INL(Max)(+/-LSB): 1; Interface: Parallel CMOS; Power Consumption(Typ)(mW): 290; Resolution(Bits): 10; Settling Time(us): 0.02; SFDR(dB): 80; SNR(dB): 63; SubFamily: High Speed DAC (>10MSPS); DatasheetVersion: SLAS452C; PackageVersion: 4073176/B, 10/1996; PackageReference: PFB48; PackageDescription: 48-Pin Plastic Flat Pack, Body 7 x 7 mm, Pitch 0.5 mm; Supplier 1: Digi-Key; Supplier Part Number 1: DAC5652IPFBG4-ND; Supplier 2: Mouser; Supplier Part Number 2: 595-DAC5652IPFBG4; Eco-Plan: Green (RoHS & no Sb/Br); Mounting Technology: Surface Mount; Code_JEDEC: MS-026; ComponentLink1Description: Manufacturer URL; ComponentLink1URL: http://www.ti.com/; ComponentLink2Description: Datasheet; ComponentLink2URL: http://www.ti.com/general/docs/lit/getliterature.tsp?genericPartNumber=DAC5652&fileType=pdf; ComponentLink3Description: Package Specification; ComponentLink3URL: http://www.ti.com/lit/ml/mtqf019a/mtqf019a.pdf
footprint TI-PFB48_N (QFP, 48-Leads, Body 7x7mm, Pitch 0.5mm, IPC Medium Density)
footprint TI-PFB48_L (QFP, 48-Leads, Body 7x7mm, Pitch 0.5mm, IPC High Density)
footprint TI-PFB48_M (QFP, 48-Leads, Body 7x7mm, Pitch 0.5mm, IPC Low Density)
part A pins: 1 DA9 (MSB) (in) "Data port A. DA9 is MSB and DA0 is LSB. Internal pulldown.", 2 DA8 (in) "Data port A. DA9 is MSB and DA0 is LSB. Internal pulldown.", 3 DA7 (in) "Data port A. DA9 is MSB and DA0 is LSB. Internal pulldown.", 4 DA6 (in) "Data port A. DA9 is MSB and DA0 is LSB. Internal pulldown.", 5 DA5 (in) "Data port A. DA9 is MSB and DA0 is LSB. Internal pulldown.", 6 DA4 (in) "Data port A. DA9 is MSB and DA0 is LSB. Internal pulldown.", 7 DA3 (in) "Data port A. DA9 is MSB and DA0 is LSB. Internal pulldown.", 8 DA2 (in) "Data port A. DA9 is MSB and DA0 is LSB. Internal pulldown.", 9 DA1 (in) "Data port A. DA9 is MSB and DA0 is LSB. Internal pulldown.", 10 DA0 (LSB) (in) "Data port A. DA9 is MSB and DA0 is LSB. Internal pulldown.", 17 WRTA/WRTIQ (in) "Input write signal for PORT A (WRTIQ in interleaving mode)", 18 CLKA/CLKIQ (in) "Clock input for DACA, CLKIQ in interleaved mode", 44 BIASJ_A "Full-scale output current bias for DACA", 45 IOUTA2 (hiz) "DACA complementary current output. Full-scale with all bits of DA low.", 46 IOUTA1 (hiz) "DACA current output. Full-scale with all bits of DA high."
part B pins: 19 CLKB/RESETIQ (in) "Clock input for DACB, RESETIQ in interleaved mode", 20 WRTB/SELECTIQ (in) "Input write signal for PORT B (SELECTIQ in interleaving mode)", 23 DB9 (MSB) (in) "Data port B. DB9 is MSB and DB0 is LSB. Internal pulldown.", 24 DB8 (in) "Data port B. DB9 is MSB and DB0 is LSB. Internal pulldown.", 25 DB7 (in) "Data port B. DB9 is MSB and DB0 is LSB. Internal pulldown.", 26 DB6 (in) "Data port B. DB9 is MSB and DB0 is LSB. Internal pulldown.", 27 DB5 (in) "Data port B. DB9 is MSB and DB0 is LSB. Internal pulldown.", 28 DB4 (in) "Data port B. DB9 is MSB and DB0 is LSB. Internal pulldown.", 29 DB3 (in) "Data port B. DB9 is MSB and DB0 is LSB. Internal pulldown.", 30 DB2 (in) "Data port B. DB9 is MSB and DB0 is LSB. Internal pulldown.", 31 DB1 (in) "Data port B. DB9 is MSB and DB0 is LSB. Internal pulldown.", 32 DB0 (LSB) (in) "Data port B. DB9 is MSB and DB0 is LSB. Internal pulldown.", 39 IOUTB1 (hiz) "DACB current output. Full-scale with all bits of DB high.", 40 IOUTB2 (hiz) "DACB complementary current output. Full-scale with all bits of DB low.", 41 BIASJ_B "Full-scale output current bias for DACB"
part C pins: 11 NC "Factory use only. Pins must be connected to DGND or left unconnected.", 12 NC "Factory use only. Pins must be connected to DGND or left unconnected.", 13 NC "Factory use only. Pins must be connected to DGND or left unconnected.", 14 NC "Factory use only. Pins must be connected to DGND or left unconnected.", 15 DGND (power) "Digital ground", 16 DVDD (power) "Digital supply voltage", 21 DGND (power) "Digital ground", 22 DVDD (power) "Digital supply voltage", 33 NC "Factory use only. Pins must be connected to DGND or left unconnected.", 34 NC "Factory use only. Pins must be connected to DGND or left unconnected.", 35 NC "Factory use only. Pins must be connected to DGND or left unconnected.", 36 NC "Factory use only. Pins must be connected to DGND or left unconnected.", 37 SLEEP (in) "Sleep function control input: H - DAC in power-down mode, L - DAC in operating mode. Internal pulldown.", 38 AGND (power) "Analog ground", 42 GSET (in) "Gain-setting mode: H - 1 resistor, L - 2 resistors. Internal pullup.", 43 EXTIO (io) "Internal reference output (bypass with 0.1 uF to AGND) or external reference input", 47 AVDD (power) "Analog supply voltage", 48 MODE (in) "Mode Select: H - Dual Bus, L - Interleaved. Internal pullup."

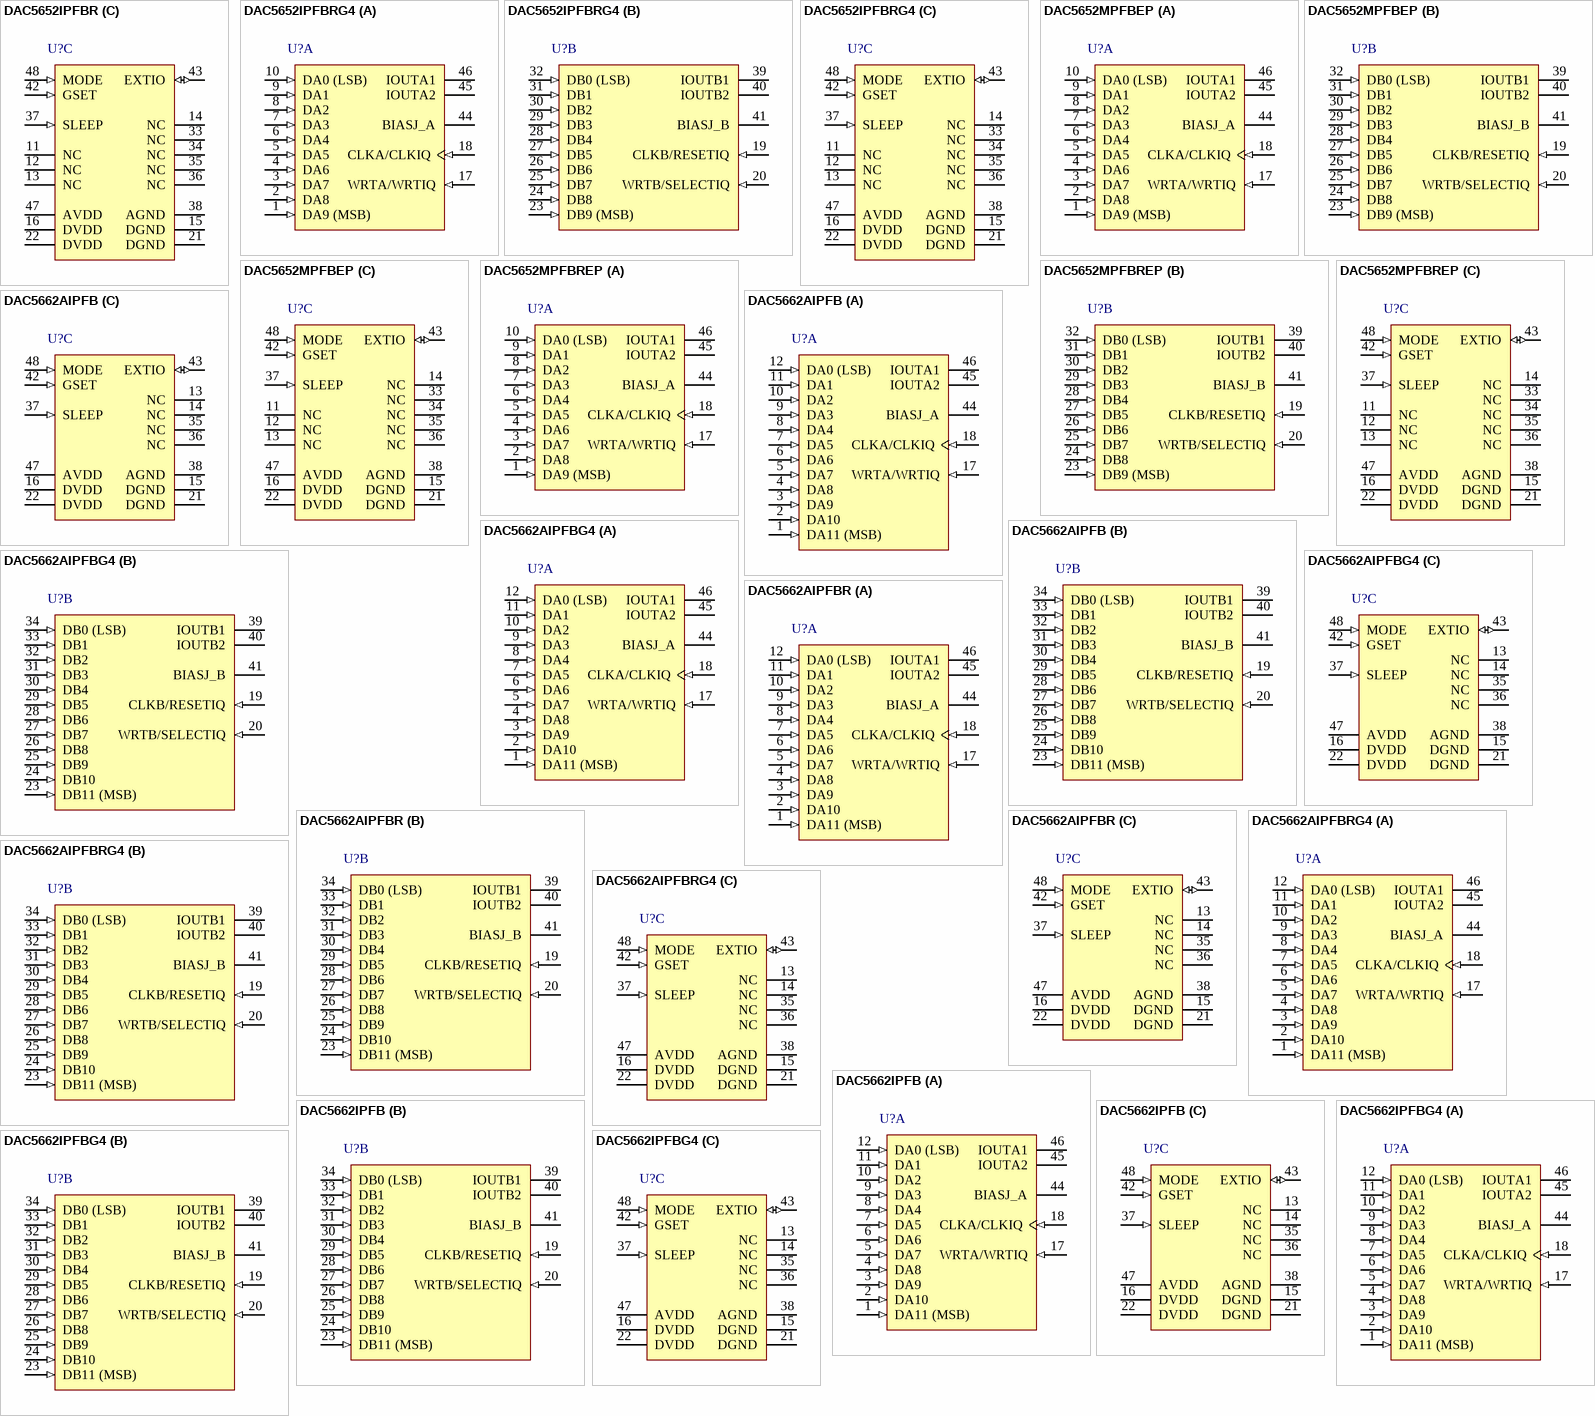
[diagram p15: symbols DAC5652IPFBR to DAC5662IPFBG4]

## DAC5652IPFBR
designator U?
10-Bit 275 MSPS Dual Digital to Analog Converter, -40 to 85 degC, 48-pin QFP (PFB48), Green (RoHS & no Sb/Br); Manufacturer: Texas Instruments; PartNumber: DAC5652IPFBR; DAC Channels: 2; DNL(Max)(+/-LSB): 0.5; INL(Max)(+/-LSB): 1; Interface: Parallel CMOS; Power Consumption(Typ)(mW): 290; Resolution(Bits): 10; Settling Time(us): 0.02; SFDR(dB): 80; SNR(dB): 63; SubFamily: High Speed DAC (>10MSPS); DatasheetVersion: SLAS452C; PackageVersion: 4073176/B, 10/1996; PackageReference: PFB48; PackageDescription: 48-Pin Plastic Flat Pack, Body 7 x 7 mm, Pitch 0.5 mm; Supplier 1: Digi-Key; Supplier Part Number 1: DAC5652IPFBR-ND; Supplier 2: Newark; Supplier Part Number 2: 28K3014; Supplier 3: Mouser; Supplier Part Number 3: 595-DAC5652IPFBR; Eco-Plan: Green (RoHS & no Sb/Br); Mounting Technology: Surface Mount; Code_JEDEC: MS-026; ComponentLink1Description: Manufacturer URL; ComponentLink1URL: http://www.ti.com/; ComponentLink2Description: Datasheet; ComponentLink2URL: http://www.ti.com/general/docs/lit/getliterature.tsp?genericPartNumber=DAC5652&fileType=pdf; ComponentLink3Description: Package Specification; ComponentLink3URL: http://www.ti.com/lit/ml/mtqf019a/mtqf019a.pdf
footprint TI-PFB48_N (QFP, 48-Leads, Body 7x7mm, Pitch 0.5mm, IPC Medium Density)
footprint TI-PFB48_L (QFP, 48-Leads, Body 7x7mm, Pitch 0.5mm, IPC High Density)
footprint TI-PFB48_M (QFP, 48-Leads, Body 7x7mm, Pitch 0.5mm, IPC Low Density)
part A pins: 1 DA9 (MSB) (in) "Data port A. DA9 is MSB and DA0 is LSB. Internal pulldown.", 2 DA8 (in) "Data port A. DA9 is MSB and DA0 is LSB. Internal pulldown.", 3 DA7 (in) "Data port A. DA9 is MSB and DA0 is LSB. Internal pulldown.", 4 DA6 (in) "Data port A. DA9 is MSB and DA0 is LSB. Internal pulldown.", 5 DA5 (in) "Data port A. DA9 is MSB and DA0 is LSB. Internal pulldown.", 6 DA4 (in) "Data port A. DA9 is MSB and DA0 is LSB. Internal pulldown.", 7 DA3 (in) "Data port A. DA9 is MSB and DA0 is LSB. Internal pulldown.", 8 DA2 (in) "Data port A. DA9 is MSB and DA0 is LSB. Internal pulldown.", 9 DA1 (in) "Data port A. DA9 is MSB and DA0 is LSB. Internal pulldown.", 10 DA0 (LSB) (in) "Data port A. DA9 is MSB and DA0 is LSB. Internal pulldown.", 17 WRTA/WRTIQ (in) "Input write signal for PORT A (WRTIQ in interleaving mode)", 18 CLKA/CLKIQ (in) "Clock input for DACA, CLKIQ in interleaved mode", 44 BIASJ_A "Full-scale output current bias for DACA", 45 IOUTA2 (hiz) "DACA complementary current output. Full-scale with all bits of DA low.", 46 IOUTA1 (hiz) "DACA current output. Full-scale with all bits of DA high."
part B pins: 19 CLKB/RESETIQ (in) "Clock input for DACB, RESETIQ in interleaved mode", 20 WRTB/SELECTIQ (in) "Input write signal for PORT B (SELECTIQ in interleaving mode)", 23 DB9 (MSB) (in) "Data port B. DB9 is MSB and DB0 is LSB. Internal pulldown.", 24 DB8 (in) "Data port B. DB9 is MSB and DB0 is LSB. Internal pulldown.", 25 DB7 (in) "Data port B. DB9 is MSB and DB0 is LSB. Internal pulldown.", 26 DB6 (in) "Data port B. DB9 is MSB and DB0 is LSB. Internal pulldown.", 27 DB5 (in) "Data port B. DB9 is MSB and DB0 is LSB. Internal pulldown.", 28 DB4 (in) "Data port B. DB9 is MSB and DB0 is LSB. Internal pulldown.", 29 DB3 (in) "Data port B. DB9 is MSB and DB0 is LSB. Internal pulldown.", 30 DB2 (in) "Data port B. DB9 is MSB and DB0 is LSB. Internal pulldown.", 31 DB1 (in) "Data port B. DB9 is MSB and DB0 is LSB. Internal pulldown.", 32 DB0 (LSB) (in) "Data port B. DB9 is MSB and DB0 is LSB. Internal pulldown.", 39 IOUTB1 (hiz) "DACB current output. Full-scale with all bits of DB high.", 40 IOUTB2 (hiz) "DACB complementary current output. Full-scale with all bits of DB low.", 41 BIASJ_B "Full-scale output current bias for DACB"
part C pins: 11 NC "Factory use only. Pins must be connected to DGND or left unconnected.", 12 NC "Factory use only. Pins must be connected to DGND or left unconnected.", 13 NC "Factory use only. Pins must be connected to DGND or left unconnected.", 14 NC "Factory use only. Pins must be connected to DGND or left unconnected.", 15 DGND (power) "Digital ground", 16 DVDD (power) "Digital supply voltage", 21 DGND (power) "Digital ground", 22 DVDD (power) "Digital supply voltage", 33 NC "Factory use only. Pins must be connected to DGND or left unconnected.", 34 NC "Factory use only. Pins must be connected to DGND or left unconnected.", 35 NC "Factory use only. Pins must be connected to DGND or left unconnected.", 36 NC "Factory use only. Pins must be connected to DGND or left unconnected.", 37 SLEEP (in) "Sleep function control input: H - DAC in power-down mode, L - DAC in operating mode. Internal pulldown.", 38 AGND (power) "Analog ground", 42 GSET (in) "Gain-setting mode: H - 1 resistor, L - 2 resistors. Internal pullup.", 43 EXTIO (io) "Internal reference output (bypass with 0.1 uF to AGND) or external reference input", 47 AVDD (power) "Analog supply voltage", 48 MODE (in) "Mode Select: H - Dual Bus, L - Interleaved. Internal pullup."

## DAC5652IPFBRG4
designator U?
10-Bit 275 MSPS Dual Digital to Analog Converter, -40 to 85 degC, 48-pin QFP (PFB48), Green (RoHS & no Sb/Br); Manufacturer: Texas Instruments; PartNumber: DAC5652IPFBRG4; DAC Channels: 2; DNL(Max)(+/-LSB): 0.5; INL(Max)(+/-LSB): 1; Interface: Parallel CMOS; Power Consumption(Typ)(mW): 290; Resolution(Bits): 10; Settling Time(us): 0.02; SFDR(dB): 80; SNR(dB): 63; SubFamily: High Speed DAC (>10MSPS); DatasheetVersion: SLAS452C; PackageVersion: 4073176/B, 10/1996; PackageReference: PFB48; PackageDescription: 48-Pin Plastic Flat Pack, Body 7 x 7 mm, Pitch 0.5 mm; Supplier 1: Digi-Key; Supplier Part Number 1: DAC5652IPFBRG4-ND; Supplier 2: Mouser; Supplier Part Number 2: 595-DAC5652IPFBRG4; Eco-Plan: Green (RoHS & no Sb/Br); Mounting Technology: Surface Mount; Code_JEDEC: MS-026; ComponentLink1Description: Manufacturer URL; ComponentLink1URL: http://www.ti.com/; ComponentLink2Description: Datasheet; ComponentLink2URL: http://www.ti.com/general/docs/lit/getliterature.tsp?genericPartNumber=DAC5652&fileType=pdf; ComponentLink3Description: Package Specification; ComponentLink3URL: http://www.ti.com/lit/ml/mtqf019a/mtqf019a.pdf
footprint TI-PFB48_N (QFP, 48-Leads, Body 7x7mm, Pitch 0.5mm, IPC Medium Density)
footprint TI-PFB48_L (QFP, 48-Leads, Body 7x7mm, Pitch 0.5mm, IPC High Density)
footprint TI-PFB48_M (QFP, 48-Leads, Body 7x7mm, Pitch 0.5mm, IPC Low Density)
part A pins: 1 DA9 (MSB) (in) "Data port A. DA9 is MSB and DA0 is LSB. Internal pulldown.", 2 DA8 (in) "Data port A. DA9 is MSB and DA0 is LSB. Internal pulldown.", 3 DA7 (in) "Data port A. DA9 is MSB and DA0 is LSB. Internal pulldown.", 4 DA6 (in) "Data port A. DA9 is MSB and DA0 is LSB. Internal pulldown.", 5 DA5 (in) "Data port A. DA9 is MSB and DA0 is LSB. Internal pulldown.", 6 DA4 (in) "Data port A. DA9 is MSB and DA0 is LSB. Internal pulldown.", 7 DA3 (in) "Data port A. DA9 is MSB and DA0 is LSB. Internal pulldown.", 8 DA2 (in) "Data port A. DA9 is MSB and DA0 is LSB. Internal pulldown.", 9 DA1 (in) "Data port A. DA9 is MSB and DA0 is LSB. Internal pulldown.", 10 DA0 (LSB) (in) "Data port A. DA9 is MSB and DA0 is LSB. Internal pulldown.", 17 WRTA/WRTIQ (in) "Input write signal for PORT A (WRTIQ in interleaving mode)", 18 CLKA/CLKIQ (in) "Clock input for DACA, CLKIQ in interleaved mode", 44 BIASJ_A "Full-scale output current bias for DACA", 45 IOUTA2 (hiz) "DACA complementary current output. Full-scale with all bits of DA low.", 46 IOUTA1 (hiz) "DACA current output. Full-scale with all bits of DA high."
part B pins: 19 CLKB/RESETIQ (in) "Clock input for DACB, RESETIQ in interleaved mode", 20 WRTB/SELECTIQ (in) "Input write signal for PORT B (SELECTIQ in interleaving mode)", 23 DB9 (MSB) (in) "Data port B. DB9 is MSB and DB0 is LSB. Internal pulldown.", 24 DB8 (in) "Data port B. DB9 is MSB and DB0 is LSB. Internal pulldown.", 25 DB7 (in) "Data port B. DB9 is MSB and DB0 is LSB. Internal pulldown.", 26 DB6 (in) "Data port B. DB9 is MSB and DB0 is LSB. Internal pulldown.", 27 DB5 (in) "Data port B. DB9 is MSB and DB0 is LSB. Internal pulldown.", 28 DB4 (in) "Data port B. DB9 is MSB and DB0 is LSB. Internal pulldown.", 29 DB3 (in) "Data port B. DB9 is MSB and DB0 is LSB. Internal pulldown.", 30 DB2 (in) "Data port B. DB9 is MSB and DB0 is LSB. Internal pulldown.", 31 DB1 (in) "Data port B. DB9 is MSB and DB0 is LSB. Internal pulldown.", 32 DB0 (LSB) (in) "Data port B. DB9 is MSB and DB0 is LSB. Internal pulldown.", 39 IOUTB1 (hiz) "DACB current output. Full-scale with all bits of DB high.", 40 IOUTB2 (hiz) "DACB complementary current output. Full-scale with all bits of DB low.", 41 BIASJ_B "Full-scale output current bias for DACB"
part C pins: 11 NC "Factory use only. Pins must be connected to DGND or left unconnected.", 12 NC "Factory use only. Pins must be connected to DGND or left unconnected.", 13 NC "Factory use only. Pins must be connected to DGND or left unconnected.", 14 NC "Factory use only. Pins must be connected to DGND or left unconnected.", 15 DGND (power) "Digital ground", 16 DVDD (power) "Digital supply voltage", 21 DGND (power) "Digital ground", 22 DVDD (power) "Digital supply voltage", 33 NC "Factory use only. Pins must be connected to DGND or left unconnected.", 34 NC "Factory use only. Pins must be connected to DGND or left unconnected.", 35 NC "Factory use only. Pins must be connected to DGND or left unconnected.", 36 NC "Factory use only. Pins must be connected to DGND or left unconnected.", 37 SLEEP (in) "Sleep function control input: H - DAC in power-down mode, L - DAC in operating mode. Internal pulldown.", 38 AGND (power) "Analog ground", 42 GSET (in) "Gain-setting mode: H - 1 resistor, L - 2 resistors. Internal pullup.", 43 EXTIO (io) "Internal reference output (bypass with 0.1 uF to AGND) or external reference input", 47 AVDD (power) "Analog supply voltage", 48 MODE (in) "Mode Select: H - Dual Bus, L - Interleaved. Internal pullup."